# EAGLE library part XFMR_TOROID_50VA (library wheat)
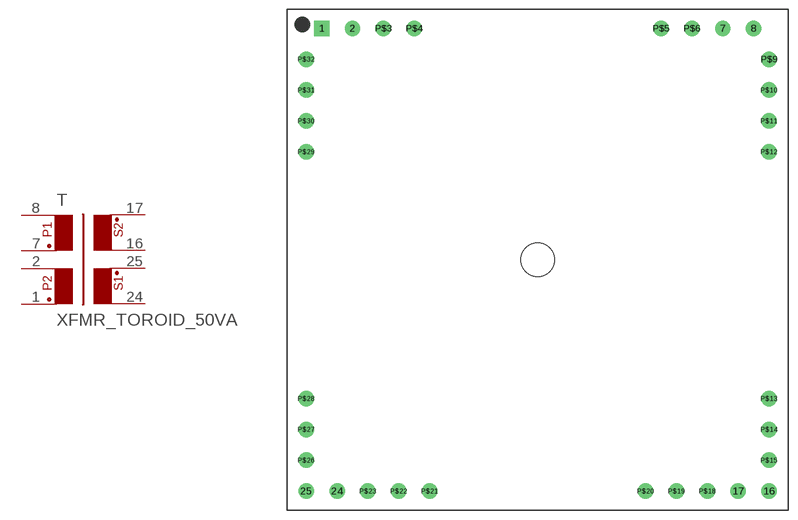
[diagram p141: symbol with the pads of XFMR_50VA_TOROID; footprint XFMR_50VA_TOROID]

Designator prefix T

## XFMR_TOROID_50VA  [XFMR_50VA_TOROID]
1  1  pas
2  2  pas
7  3  pas
8  4  pas
16  6  pas
17  5  pas
24  8  pas
25  7  pas

## Footprint XFMR_50VA_TOROID (pad centres in mm)
drill 1.499 pad 2.54 square: 1 -35.56,38.1
drill 1.499 pad 2.54: 2 -30.48,38.1; 7 30.48,38.1; 8 35.56,38.1; 16 38.1,-38.1; 17 33.02,-38.1; 24 -33.02,-38.1; 25 -38.1,-38.1; P$3 -25.4,38.1; P$4 -20.32,38.1; P$5 20.32,38.1; P$6 25.4,38.1; P$9 38.1,33.02; P$10 38.1,27.94; P$11 38.1,22.86; P$12 38.1,17.78; P$13 38.1,-22.86; P$14 38.1,-27.94; P$15 38.1,-33.02; P$18 27.94,-38.1; P$19 22.86,-38.1; P$20 17.78,-38.1; P$21 -17.78,-38.1; P$22 -22.86,-38.1; P$23 -27.94,-38.1; P$26 -38.1,-33.02; P$27 -38.1,-27.94; P$28 -38.1,-22.86; P$29 -38.1,17.78; P$30 -38.1,22.86; P$31 -38.1,27.94; P$32 -38.1,33.02
hole 5.556 at 0,0